# EAGLE library part SMS3923-081 (library yapo)
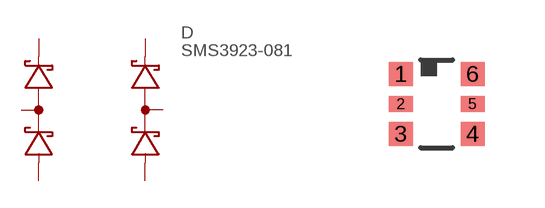
[diagram p55: symbol with the pads of SC-88; footprint SC-88]

Designator prefix D

## SMS3923-081  [SC-88]
1  ANODE0
2  COMMON0
3  CATHODE0
4  CATHODE1
5  COMMON1
6  ANODE1

## Footprint SC-88 (pad centres in mm)
smd 0.6 x 0.6: 1 -0.9,0.75; 3 -0.9,-0.75; 4 0.9,-0.75; 6 0.9,0.75
smd 0.6 x 0.4: 2 -0.9,0; 5 0.9,0